# Altium schematic symbol library CHERRY_MX_Switches.SchLib: 1 symbol
Pins are listed as number, name and electrical type; pins without a type are passive.

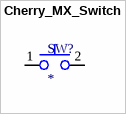
[diagram p0: symbol Cherry_MX_Switch]

## Cherry_MX_Switch
designator SW?
2 Pin Cherry MX Switch
footprint Cherry MX 2 Pin (A Cherry MX Switch with 2 Mounting Holes)
pins: 1 4, 2 4